# Altium footprint library PcbLib1.PcbLib: 44 footprints (part 3 of 3)
Each footprint in its own frame and in the unit in brackets; x right, y up, seen from the top. Pads: shape width x height; smd on the part's side, far side on the other; paste and mask are expansions set on the pad; w line width, h text height; cw(c..) or ccw(c..) is an arc to the next point about the centre after c.
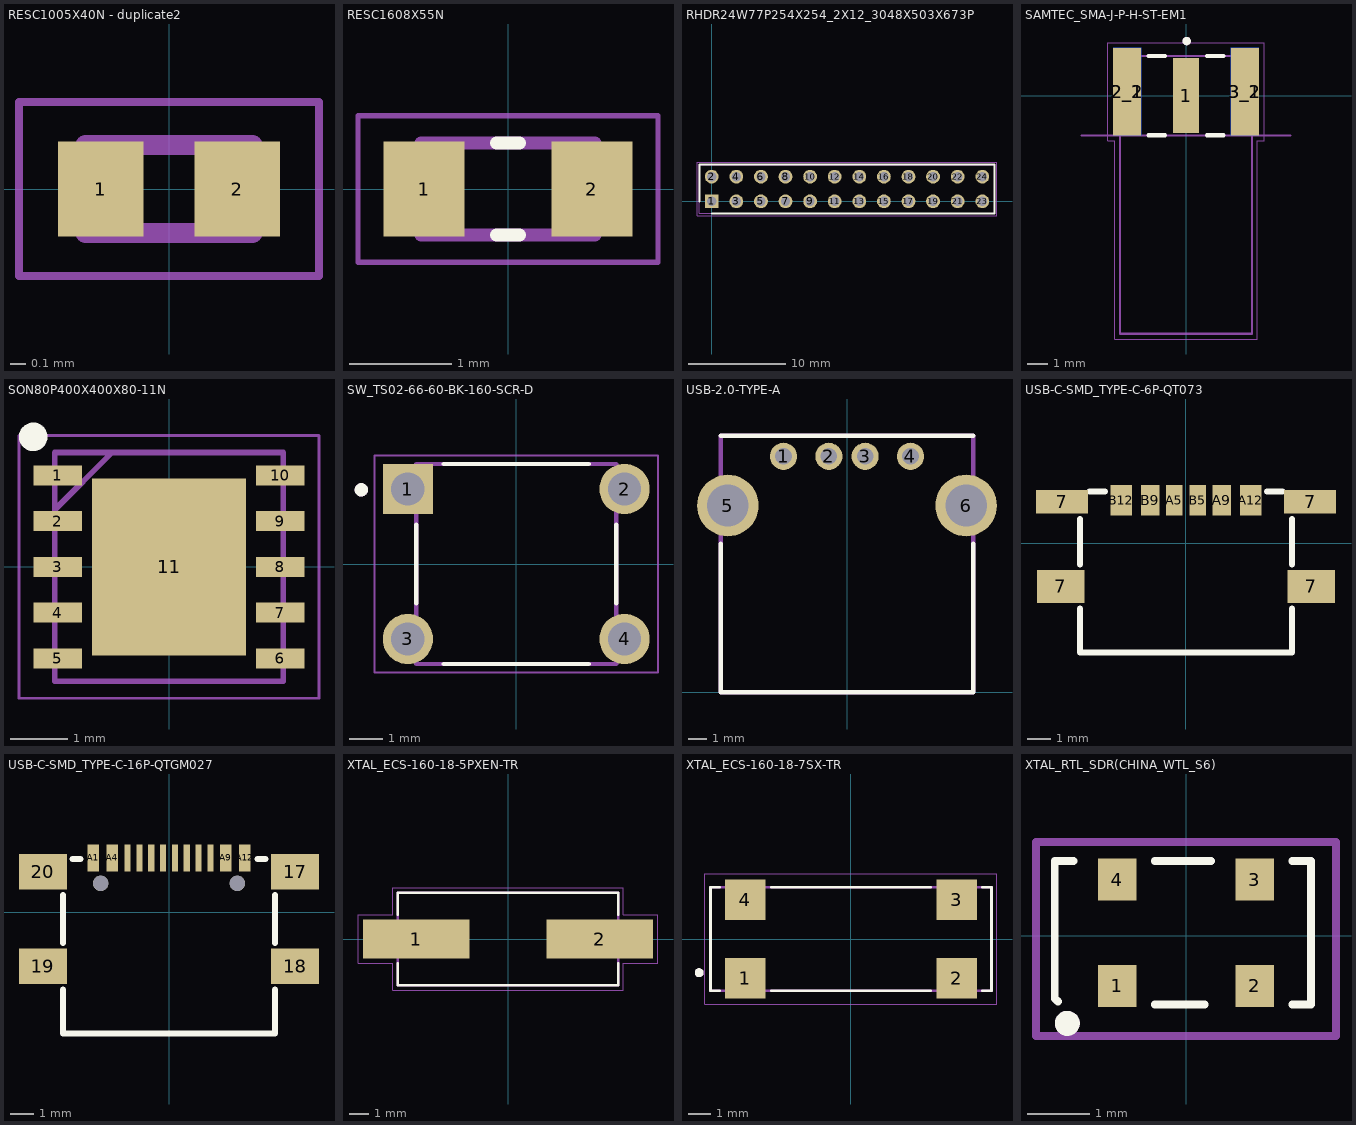
[diagram p2: the footprints below, top view; thin cyan lines are the x and y axes]

## RESC1005X40N - duplicate2 [mm]
pads (2):
  rect 0.54x0.6 smd: 1(-0.432,0) 2(0.432,0)
Mechanical 13:
  lines w0.127: -0.53,-0.28 -0.53,0.28 0.53,0.28 0.53,-0.28 -0.53,-0.28
Mechanical 15:
  lines w0.05: -0.95,-0.55 -0.95,0.55 0.95,0.55 0.95,-0.55 -0.95,-0.55

## RESC1608X55N [mm]
pads (2):
  rect 0.79x0.93 smd: 1(-0.82,0) 2(0.82,0)
Top Overlay:
  lines w0.127: -0.11,-0.45 0.11,-0.45 ; -0.11,0.45 0.11,0.45
Mechanical 13:
  lines w0.127: -0.85,-0.45 -0.85,0.45 0.85,0.45 0.85,-0.45 -0.85,-0.45
Mechanical 15:
  lines w0.05: -1.465,-0.715 -1.465,0.715 1.465,0.715 1.465,-0.715 -1.465,-0.715
3D body "RC0603JR-071K8L.STEP": height 0.55, standoff 0, extent -0.8,-0.4 0.8,0.4

## RHDR24W77P254X254_2X12_3048X503X673P [mm]
pads (24):
  rect 1.425x1.425 / inner round 1.425 / far side rect 1.425x1.425 hole 0.95: 1(0,0)
  round 1.425 hole 0.95: 2(0,2.54) 3(2.54,0) 4(2.54,2.54) 5(5.08,0) 6(5.08,2.54) 7(7.62,0) 8(7.62,2.54) 9(10.16,0) 10(10.16,2.54) 11(12.7,0) 12(12.7,2.54) 13(15.24,0) 14(15.24,2.54) 15(17.78,0) 16(17.78,2.54) 17(20.32,0) 18(20.32,2.54) 19(22.86,0) 20(22.86,2.54) 21(25.4,0) 22(25.4,2.54) 23(27.94,0) 24(27.94,2.54)
Top Overlay:
  lines w0.2: -1.27,0 -1.27,3.785 29.21,3.785 29.21,-1.245 0,-1.245
Mechanical 15:
  lines w0.1: -1.27,-1.245 29.21,-1.245 29.21,3.785 -1.27,3.785 -1.27,-1.245
Mechanical 20:
  lines w0.05: -1.52,-1.495 29.46,-1.495 29.46,4.035 -1.52,4.035 -1.52,-1.495
3D body "6-534998-2.stp": height 6.22, standoff -3.68, extent -1.27,-1.245 29.21,3.785

## SAMTEC_SMA-J-P-H-ST-EM1 [mm]
pads (5):
  rect 1.27x3.6 smd: 1(0,0)
  rect 1.35x4.2 smd: 2_1(-2.825,0.2) 3_1(2.825,0.2)
  rect 1.35x4.2 smd far side: 2_2(-2.825,0.2) 3_2(2.825,0.2)
Top Overlay:
  circle w0.2: c0.03,2.62 r0.1
  lines w0.2: -1.8,-1.9 -1,-1.9 ; -1.8,1.91 -1,1.91 ; 1,-1.9 1.8,-1.9 ; 1,1.91 1.8,1.91
Mechanical 13:
  circle w0.2: c0.03,2.62 r0.1
  lines w0.1: -5,-1.9 -3.165,-1.9 ; 5,-1.9 3.165,-1.9 ; -3.165,-1.9 -3.175,1.91 3.175,1.91 3.165,-1.9 ; -3.165,-1.9 3.165,-1.9 ; -3.165,-1.9 -3.165,-11.42 3.165,-11.42 3.165,-1.9
  text "PCB EDGE" at 4.304,-1.702 h0.61
Mechanical 15:
  lines w0.05: -3.75,-2.15 -3.75,2.55 3.75,2.55 3.75,-2.15 3.415,-2.15 3.415,-11.67 -3.415,-11.67 -3.415,-2.15 -3.75,-2.15
3D body "SMA-J-P-H-ST-EM1--3DModel-STEP-46669.STEP": height 3.81, standoff -2.54, extent -3.175,-11.911 3.175,1.419

## SON80P400X400X80-11N [mm]
pads (11):
  rect 0.85x0.35 smd: 1(-1.95,1.6) 2(-1.95,0.8) 3(-1.95,0) 4(-1.95,-0.8) 5(-1.95,-1.6) 6(1.95,-1.6) 7(1.95,-0.8) 8(1.95,0) 9(1.95,0.8) 10(1.95,1.6)
  rect 2.7x3.1 smd: 11(0,0)
Top Overlay:
  circle w0.25: c-2.375,2.275 r0.125
Mechanical 15:
  lines w0.1: -2,1 -1,2 ; -2,-2 2,-2 2,2 -2,2 -2,-2
Mechanical 20:
  lines w0.05: -2.625,-2.3 2.625,-2.3 2.625,2.3 -2.625,2.3 -2.625,-2.3
3D body "LMR14050QDPRRQ1.stp": height 0.8, standoff 0, extent -2,-2 2,2

## SW_TS02-66-60-BK-160-SCR-D [mm]
pads (4):
  rect 1.508x1.508 / inner round 1.508 / far side rect 1.508x1.508 hole 1: 1(-3.25,2.25)
  round 1.508 hole 1: 2(3.25,2.25) 3(-3.25,-2.25) 4(3.25,-2.25)
Top Overlay:
  circle w0.2: c-4.647,2.226 r0.1
  lines w0.127: -3,-1.176 -3,1.176 ; -2.176,-3 2.176,-3 ; -2.176,3 2.176,3 ; 3,-1.176 3,1.176
Mechanical 13:
  circle w0.2: c-4.647,2.226 r0.1
  lines w0.127: -3,-3 3,-3 3,3 -3,3 -3,-3
Mechanical 15:
  lines w0.05: -4.254,-3.254 -4.254,3.254 4.254,3.254 4.254,-3.254 -4.254,-3.254

## USB-2.0-TYPE-A [mm]
pads (6):
  round 1.5 hole 0.92: 1(-3.5,13.01) 2(-1,13.01) 3(1,13.01) 4(3.5,13.01)
  round 3.4 hole 2.3: 5(-6.57,10.3) 6(6.57,10.3)
Top Overlay:
  lines w0.254: -6.95,8.2 -6.95,0 6.95,0 6.95,8.2 ; -6.95,14.15 6.95,14.15
Mechanical 15:
  lines w0.254: -6.95,0 -6.95,14.15 6.95,14.15 6.95,0 -6.95,0
3D body "614004190021.stp": height 4.2, standoff -7.2, extent -7.85,0 7.85,14.15

## USB-C-SMD_TYPE-C-6P-QT073 [mm]
pads (10):
  rect 2x1.4 smd: 7(-5.32,-1.825) 7(5.32,-1.825)
  rect 2.2x1 smd: 7(-5.269,1.775) 7(5.269,1.775)
  rect 0.7x1.3 smd: A5(-0.5,1.825) B5(0.5,1.825)
  rect 0.8x1.3 smd: A9(1.52,1.825) B9(-1.52,1.825)
  rect 0.9x1.3 smd: A12(2.75,1.825) B12(-2.75,1.825)
Top Overlay:
  lines w0.254: -4.5,-2.756 -4.5,-4.625 4.5,-4.625 4.5,-2.756 ; -4.5,-0.894 -4.5,1.044 ; -4.089,2.206 -3.431,2.206 ; 3.431,2.206 4.089,2.206 ; 4.5,-0.894 4.5,1.044

## USB-C-SMD_TYPE-C-16P-QTGM027 [mm]
pads (18):
  rect 2.02x1.5 smd: 17(5.33,1.713) 18(5.33,-2.287) 19(-5.33,-2.287) 20(-5.33,1.713)
  rect 0.5x1.15 smd: A1(-3.2,2.287) A4(-2.4,2.287) A9(2.399,2.287) A12(3.199,2.287)
  rect 0.26x1.15 smd: A5(-1.25,2.287) A6(-0.25,2.287) A7(0.25,2.287) A8(1.25,2.287) B5(1.75,2.287) B6(0.75,2.287) B7(-0.75,2.287) B8(-1.75,2.287)
  round 0.65 hole 0.65 unplated: ""(-2.89,1.213) ""(2.89,1.213)
Top Overlay:
  lines w0.254: -4.47,-3.268 -4.47,-5.137 4.47,-5.137 4.47,-3.268 ; -4.47,-1.306 -4.47,0.732 ; -4.089,2.24 -3.731,2.24 ; 3.731,2.24 4.089,2.24 ; 4.47,-1.306 4.47,0.732
Mechanical 15:
  circle w0.25: c-2.89,1.213 r0.125
  circle w0.25: c2.89,1.213 r0.125

## XTAL_ECS-160-18-5PXEN-TR [mm]
pads (2):
  rect 5.5x2 smd: 1(-4.75,0) 2(4.75,0)
Top Overlay:
  lines w0.127: -5.7,-1.254 -5.7,-2.4 5.7,-2.4 5.7,-1.254 ; -5.7,1.254 -5.7,2.4 5.7,2.4 5.7,1.254
Mechanical 13:
  lines w0.127: -5.7,-2.4 -5.7,2.4 5.7,2.4 5.7,-2.4 -5.7,-2.4
Mechanical 15:
  lines w0.05: -7.75,-1.25 -5.95,-1.25 -5.95,-2.65 5.95,-2.65 5.95,-1.25 7.75,-1.25 7.75,1.25 5.95,1.25 5.95,2.65 -5.95,2.65 -5.95,1.25 -7.75,1.25 -7.75,-1.25
3D body "ECS-160-18-5PXEN-TR.STEP": height 4.3, standoff 0, extent -6.675,-2.5 6.525,2.3

## XTAL_ECS-160-18-7SX-TR [mm]
pads (4):
  rect 1.8x1.8 smd: 1(-4.7,-1.75) 2(4.7,-1.75) 3(4.7,1.75) 4(-4.7,1.75)
Top Overlay:
  circle w0.2: c-6.75,-1.5 r0.1
  lines w0.127: -5.854,-2.3 -6.25,-2.3 -6.25,2.3 -5.854,2.3 ; -3.546,-2.3 3.546,-2.3 ; -3.546,2.3 3.546,2.3 ; 5.854,-2.3 6.25,-2.3 6.25,2.3 5.854,2.3
Mechanical 13:
  circle w0.2: c-6.75,-1.5 r0.1
  lines w0.127: -6.25,-2.3 -6.25,2.3 6.25,2.3 6.25,-2.3 -6.25,-2.3
Mechanical 15:
  lines w0.05: -6.5,-2.9 -6.5,2.9 6.5,2.9 6.5,-2.9 -6.5,-2.9
3D body "step_temp.STEP": height 3.7, standoff 0, extent -6.25,-2.3 6.25,2.3

## XTAL_RTL_SDR(CHINA_WTL_S6) [mm]
pads (4):
  rect 0.62x0.67 smd: 1(-1.1,-0.8) 2(1.1,-0.8) 3(1.1,0.9) 4(-1.1,0.9)
Top Overlay:
  circle w0.2: c-1.9,-1.4 r0.1
  lines w0.127: -2.05,-1.05 -2.1,-1 -2.1,1.2 -1.8,1.2 ; -0.5,-1.1 0.3,-1.1 ; -0.5,1.2 0.4,1.2 ; 1.7,-1.1 2,-1.1 2,0.2 2,1.2 1.7,1.2
Mechanical 13:
  circle w0.2: c-1.9,-1.4 r0.1
  lines w0.127: -2.4,-1.6 2.4,-1.6 2.4,1.5 -2.4,1.5 -2.4,-1.6
Mechanical 15:
  lines w0.05: -2.4,-1.6 -2.4,1.5 2.4,1.5 2.4,-1.6 -2.4,-1.6